# EAGLE library part EXB-A10P (library panasonic)
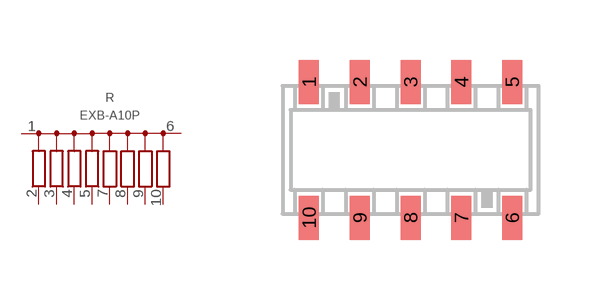
[diagram p0: symbol with the pads of 2512; footprint 2512]

Designator prefix R

## EXB-A10P103J  [2512]
1  COMMON1  pas
2  R1  pas
3  R2  pas
4  R3  pas
5  R4  pas
6  COMMON2  pas
7  R5  pas
8  R6  pas
9  R7  pas
10  R8  pas

## Footprint 2512 (pad centres in mm)
smd 0.5 x 1.1: 1 -2.54,1.7; 2 -1.27,1.7; 3 0,1.7; 4 1.27,1.7; 5 2.54,1.7; 6 2.54,-1.7; 7 1.27,-1.7; 8 0,-1.7; 9 -1.27,-1.7; 10 -2.54,-1.7